# EAGLE library part ENC28J60 (library FansElectronics-Modul)
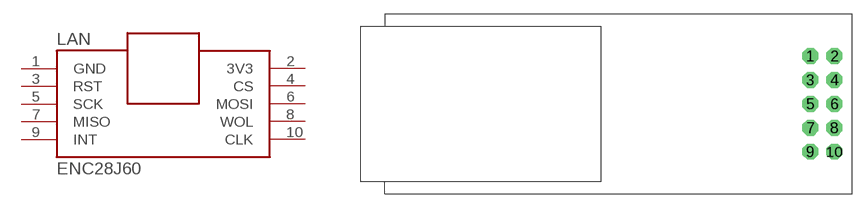
[diagram p22: symbol with the pads of ENC28J60-1; footprint ENC28J60-1]

Designator prefix LAN

## ENC28J60  [ENC28J60-1]
1  GND  pwr
2  3V3  pwr
3  RST
4  CS
5  SCK
6  MOSI
7  MISO
8  WOL
9  INT
10  CLK

## Footprint ENC28J60-1 (pad centres in mm)
drill 1 pad 1.676 octagon: 1 -1.27,5.08; 2 1.27,5.08; 3 -1.27,2.54; 4 1.27,2.54; 5 -1.27,0; 6 1.27,0; 7 -1.27,-2.54; 8 1.27,-2.54; 9 -1.27,-5.08; 10 1.27,-5.08